# Altium integrated library Analog Devices Data Converters Analog-to-Digital Converters.IntLib: 2400 symbols (part 250 of 338)
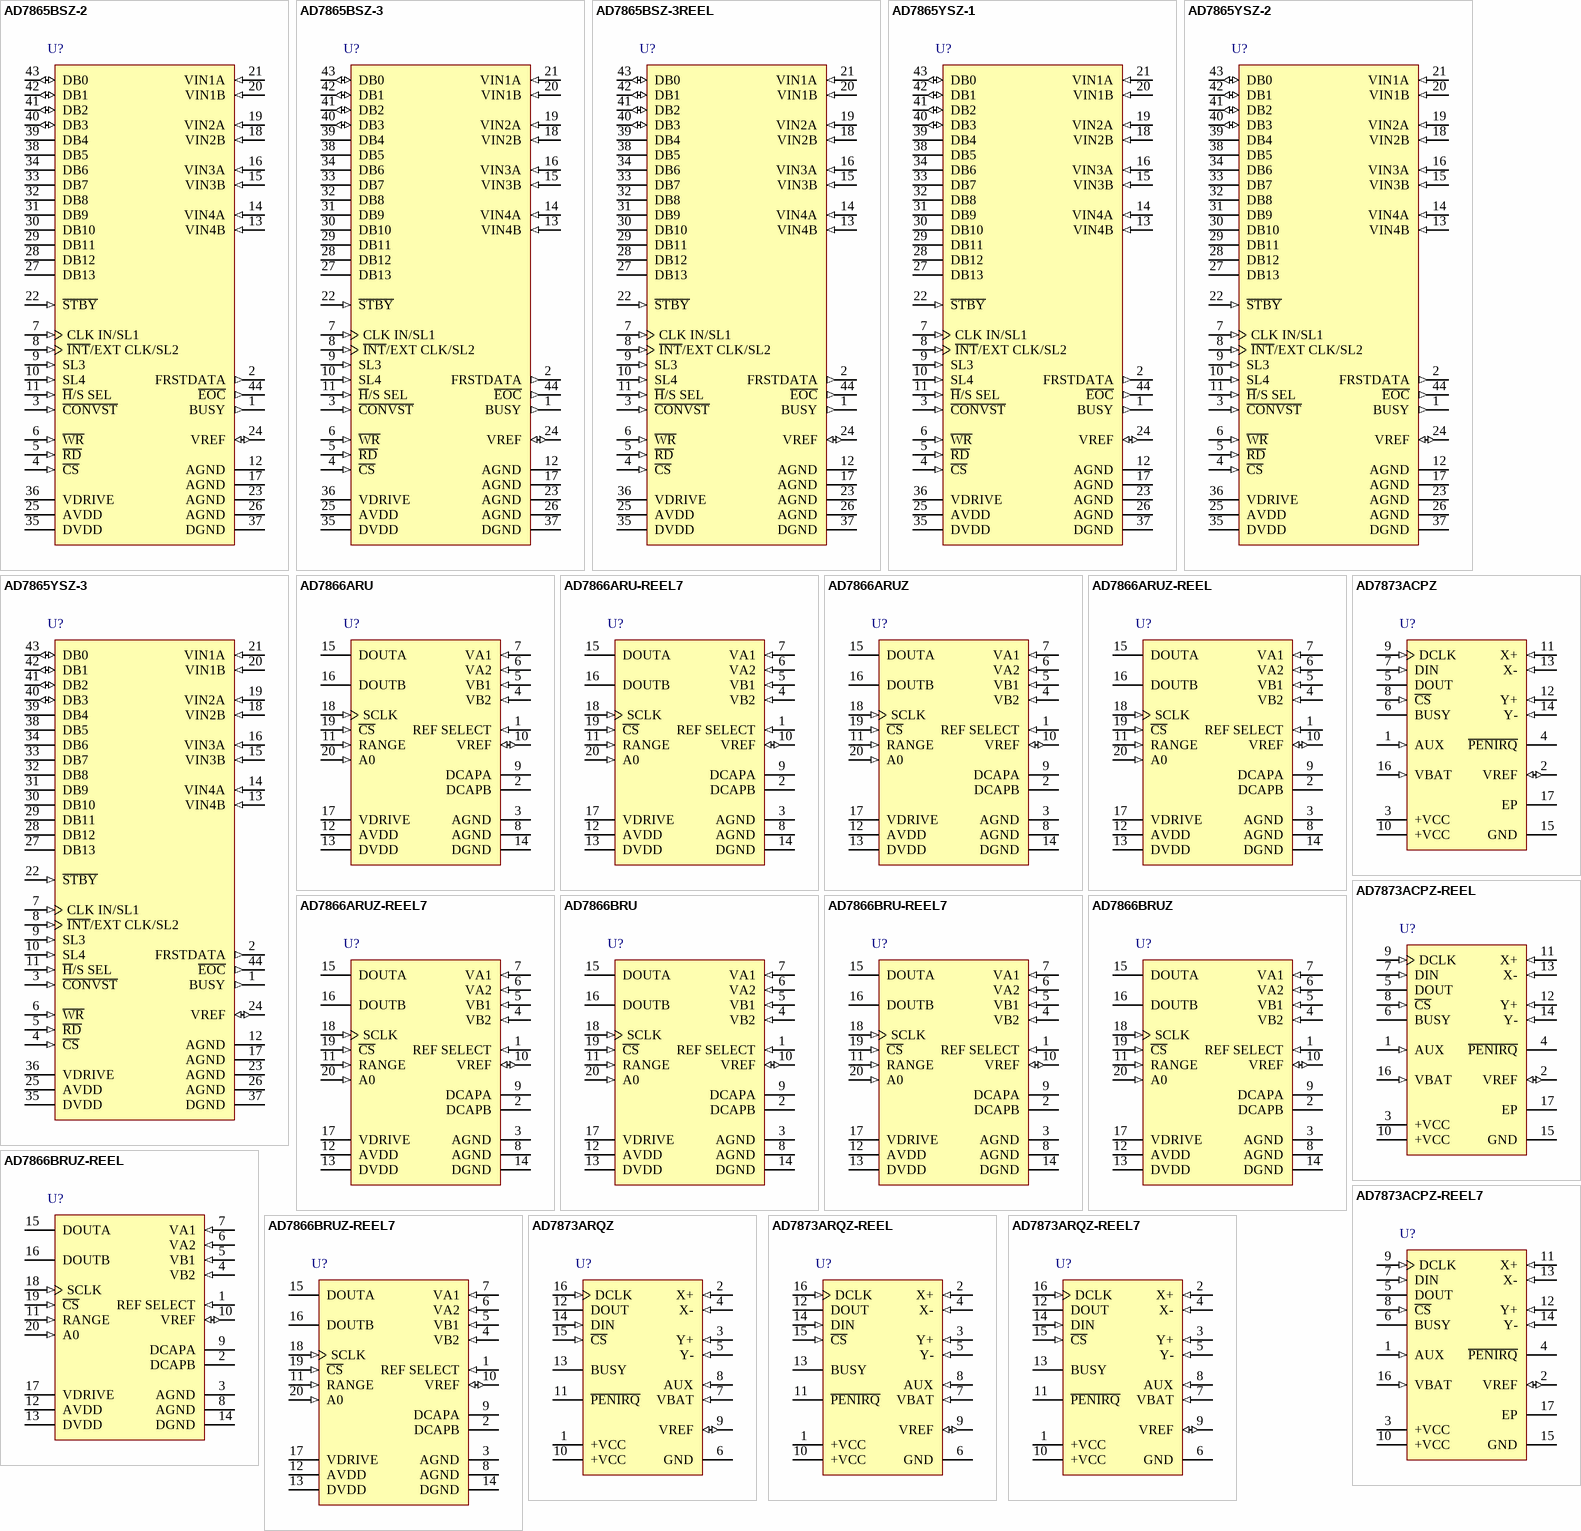
[diagram p390: symbols AD7865BSZ-2 to AD7873ARQZ-REEL7]

## AD7866BRUZ-REEL
designator U?
Dual 12-Bit SAR Analog-to-Digital Converter with Serial, SPI Interface, 1MSPS, -40 to +125 degC, RU-20, Pb-Free, Reel; Part Number: AD7866; Manufacturer: Analog Devices; Resolution (Bits): 12; Channels: 4; Throughput Rate (SPS): 1M; Interface: Ser, SPI; DatasheetVersion: Rev.A; PackageVersion: 2000; PackageReference: RU-20; PackageDescription: 20-Lead Thin Shrink Small Outline Package [TSSOP]; RoHS: Y; Packing: Reel; Mounting Technology: Surface Mount; Code_JEDEC: MO-153AC; ComponentLink1Description: Manufacturer URL; ComponentLink1URL: http://www.analog.com/en/index.html; ComponentLink2Description: Datasheet; ComponentLink2URL: http://www.analog.com/static/imported-files/data_sheets/AD7866.pdf; ComponentLink3Description: Package Specification; ComponentLink3URL: http://www.analog.com/static/imported-files/packages/364515793657813558433715854054607941441RU20.pdf; ComponentLink4Description: Product URL; ComponentLink4URL: http://www.analog.com/en/analog-to-digital-converters/ad-converters/ad7866/products/product.html
footprint RU-20_N (TSOP, 20-Leads, Body 6.5x4.4mm, Pitch 0.65mm, IPC Medium Density)
footprint RU-20_L (TSOP, 20-Leads, Body 6.5x4.4mm, Pitch 0.65mm, IPC High Density)
footprint RU-20_M (TSOP, 20-Leads, Body 6.5x4.4mm, Pitch 0.65mm, IPC Low Density)
pins: 1 REF SELECT (in) "Internal/External Reference Selection. Logic input. If this pin is tied to GND, the on-chip 2.5 V reference is used as the reference source for both ADC A and ADC B. In addition, pins VREF, DCAPA, and DCAPB must be tied to (See Datasheet)", 2 DCAPB "Decoupling capacitors are connected to these pins to decouple the reference buffer for each respective ADC. The on-chip reference can be taken from these pins and applied externally to the rest of a system. Depending on the (See Datasheet)", 3 AGND (power) "Analog Ground. Ground reference point for all analog circuitry on the AD7866. All analog input signals and any external reference signal should be referred to this AGND voltage. Both of these pins should connect to the AGND (See Datasheet)", 4 VB2 (in) "Analog Inputs of ADC B. Single-ended analog input channels. The input range on each channel is 0 V to VREF or a 2 X VREF range depending on the polarity of the RANGE pin upon the falling edge of C\S\.", 5 VB1 (in) "Analog Inputs of ADC B. Single-ended analog input channels. The input range on each channel is 0 V to VREF or a 2 X VREF range depending on the polarity of the RANGE pin upon the falling edge of C\S\.", 6 VA2 (in) "Analog Inputs of ADC A. Single-ended analog input channels. The input range on each channel is 0 V to VREF or a 2 X VREF range depending on the polarity of the RANGE pin upon the falling edge of C\S\.", 7 VA1 (in) "Analog Inputs of ADC A. Single-ended analog input channels. The input range on each channel is 0 V to VREF or a 2 X VREF range depending on the polarity of the RANGE pin upon the falling edge of C\S\.", 8 AGND (power) "Analog Ground. Ground reference point for all analog circuitry on the AD7866. All analog input signals and any external reference signal should be referred to this AGND voltage. Both of these pins should connect to the AGND (See Datasheet)", 9 DCAPA "Decoupling capacitors are connected to these pins to decouple the reference buffer for each respective ADC. The on-chip reference can be taken from these pins and applied externally to the rest of a system. Depending on the (See Datasheet)", 10 VREF (io) "Reference Decoupling and External Reference Selection. This pin is connected to the internal reference and requires a decoupling capacitor. The nominal reference voltage is 2.5 V, which appears at the pin; however, if the (See Datasheet)", 11 RANGE (in) "Analog Input Range and Output Coding Selection. Logic input. The polarity on this pin will determine what input range the analog input channels on the AD7866 will have, and will also select the type of output coding the ADC (See Datasheet)", 12 AVDD (power) "Analog Supply Voltage, 2.7 V to 5.25 V. This is the only supply voltage for all analog circuitry on the AD7866. The AVDD and DVDD voltages ideally should be at the same potential and must not be more than 0.3 V apart even on (See Datasheet)", 13 DVDD (power) "Digital Supply Voltage, 2.7 V to 5.25 V. This is the supply voltage for all digital circuitry on the AD7866. The DVDD and AVDD voltages should ideally be at the same potential and must not be more than 0.3 V apart even on a (See Datasheet)", 14 DGND (power) "Digital Ground. This is the ground reference point for all digital circuitry on the AD7866. The DGND and AGND voltages ideally should be at the same potential and must not be more than 0.3 V apart even on a transient basis.", 15 DOUTA (hiz) "Serial Data Outputs. The data output is supplied to this pin as a serial data stream. The bits are clocked out on the falling edge of the SCLK input. The data appears on both pins simultaneously from the simultaneous (See Datasheet)", 16 DOUTB (hiz) "Serial Data Outputs. The data output is supplied to this pin as a serial data stream. The bits are clocked out on the falling edge of the SCLK input. The data appears on both pins simultaneously from the simultaneous (See Datasheet)", 17 VDRIVE (power) "Logic Power Supply Input. The voltage supplied at this pin determines at what voltage the interface will operate. This pin should be decoupled to DGND.", 18 SCLK (in) "Serial Clock. Logic Input. A serial clock input provides the SCLK for accessing the data from the AD7866. This clock is also used as the clock source for the conversion process.", 19 ~{CS} (in) "Chip Select. Active low logic input. This input provides the dual function of initiating conversions on the AD7866 and frames the serial data transfer.", 20 A0 (in) "Multiplexer Select. Logic input. This input is used to select the pair of channels to be converted simultaneously, i.e., Channel 1 of both ADC A and ADC B, or Channel 2 of both ADC A and ADC B. The logic state of this pin is (See Datasheet)"